# Altium schematic symbol library 686 1xx 148 922.SchLib: 15 symbols
Pins are listed as number, name and electrical type; pins without a type are passive.

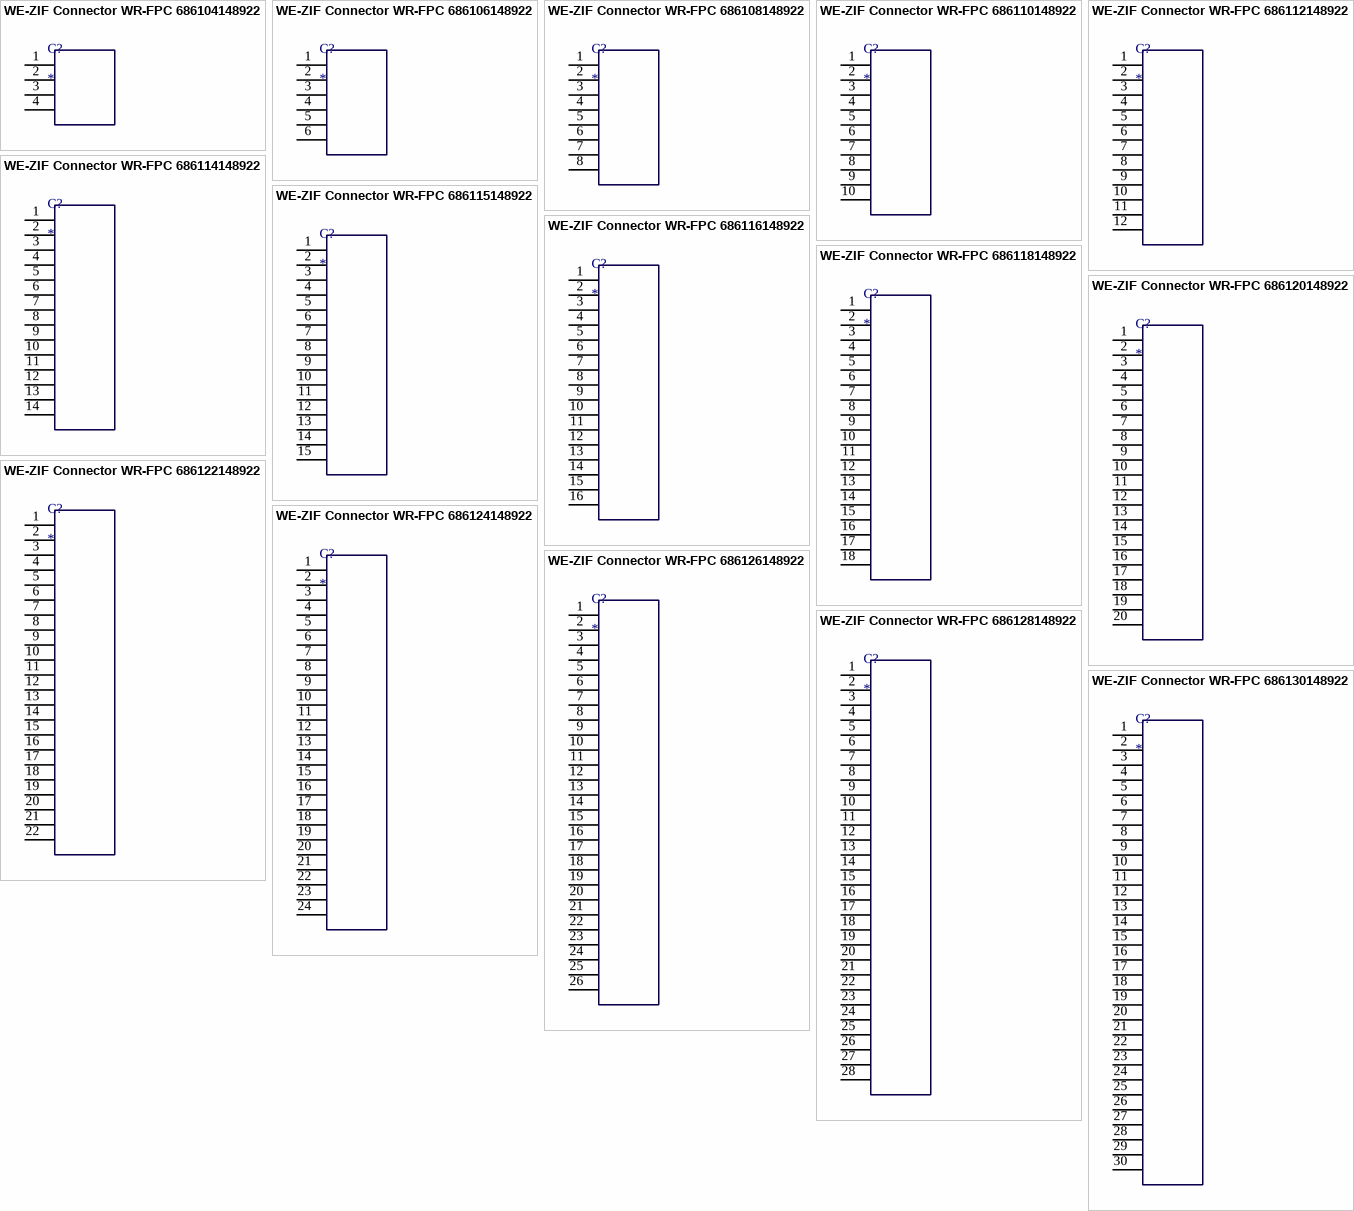
[diagram p0: symbols WE-ZIF Connector WR-FPC 686104148922 to WE-ZIF Connector WR-FPC 686130148922]

## WE-ZIF Connector WR-FPC 686104148922
designator C?
WR-FPC 1mm SMT Horiz. Bot. Contact Hinge type; Manufacturer: Würth Elektronik eiSos GmbH; partNo: 686104148922; ComponentLink1 Description: Manufacturer; ComponentLink2 Description: Datasheet; ComponentLink1URL: http://www.we-online.de; ComponentLink2URL: http://katalog.we-online.de/em/datasheet/6861xx148922.pdf; Created by: Karrer Zheng; Created Date: 10/9/2014
footprint 686104148922
pins: 1  , 2  , 3  , 4  

## WE-ZIF Connector WR-FPC 686106148922
designator C?
WR-FPC 1mm SMT Horiz. Bot. Contact Hinge type; Manufacturer: Würth Elektronik eiSos GmbH; partNo: 686106148922; ComponentLink1 Description: Manufacturer; ComponentLink2 Description: Datasheet; ComponentLink1URL: http://www.we-online.de; ComponentLink2URL: http://katalog.we-online.de/em/datasheet/6861xx148922.pdf; Created by: Karrer Zheng; Created Date: 10/9/2014
footprint 686106148922
pins: 1  , 2  , 3  , 4  , 5  , 6  

## WE-ZIF Connector WR-FPC 686108148922
designator C?
WR-FPC 1mm SMT Horiz. Bot. Contact Hinge type; Manufacturer: Würth Elektronik eiSos GmbH; partNo: 686108148922; ComponentLink1 Description: Manufacturer; ComponentLink2 Description: Datasheet; ComponentLink1URL: http://www.we-online.de; ComponentLink2URL: http://katalog.we-online.de/em/datasheet/6861xx148922.pdf; Created by: Karrer Zheng; Created Date: 10/9/2014
footprint 686108148922
pins: 1  , 2  , 3  , 4  , 5  , 6  , 7  , 8  

## WE-ZIF Connector WR-FPC 686110148922
designator C?
WR-FPC 1mm SMT Horiz. Bot. Contact Hinge type; Manufacturer: Würth Elektronik eiSos GmbH; partNo: 686110148922; ComponentLink1 Description: Manufacturer; ComponentLink2 Description: Datasheet; ComponentLink1URL: http://www.we-online.de; ComponentLink2URL: http://katalog.we-online.de/em/datasheet/6861xx148922.pdf; Created by: Karrer Zheng; Created Date: 10/9/2014
footprint 686110148922
pins: 1  , 2  , 3  , 4  , 5  , 6  , 7  , 8  , 9  , 10  

## WE-ZIF Connector WR-FPC 686112148922
designator C?
WR-FPC 1mm SMT Horiz. Bot. Contact Hinge type; Manufacturer: Würth Elektronik eiSos GmbH; partNo: 686112148922; ComponentLink1 Description: Manufacturer; ComponentLink2 Description: Datasheet; ComponentLink1URL: http://www.we-online.de; ComponentLink2URL: http://katalog.we-online.de/em/datasheet/6861xx148922.pdf; Created by: Karrer Zheng; Created Date: 10/9/2014
footprint 686112148922
pins: 1  , 2  , 3  , 4  , 5  , 6  , 7  , 8  , 9  , 10  , 11  , 12  

## WE-ZIF Connector WR-FPC 686114148922
designator C?
WR-FPC 1mm SMT Horiz. Bot. Contact Hinge type; Manufacturer: Würth Elektronik eiSos GmbH; partNo: 686114148922; ComponentLink1 Description: Manufacturer; ComponentLink2 Description: Datasheet; ComponentLink1URL: http://www.we-online.de; ComponentLink2URL: http://katalog.we-online.de/em/datasheet/6861xx148922.pdf; Created by: Karrer Zheng; Created Date: 10/9/2014
footprint 686114148922
pins: 1  , 2  , 3  , 4  , 5  , 6  , 7  , 8  , 9  , 10  , 11  , 12  , 13  , 14  

## WE-ZIF Connector WR-FPC 686115148922
designator C?
WR-FPC 1mm SMT Horiz. Bot. Contact Hinge type; Manufacturer: Würth Elektronik eiSos GmbH; partNo: 686115148922; ComponentLink1 Description: Manufacturer; ComponentLink2 Description: Datasheet; ComponentLink1URL: http://www.we-online.de; ComponentLink2URL: http://katalog.we-online.de/em/datasheet/6861xx148922.pdf; Created by: Karrer Zheng; Created Date: 10/9/2014
footprint 686115148922
pins: 1  , 2  , 3  , 4  , 5  , 6  , 7  , 8  , 9  , 10  , 11  , 12  , 13  , 14  , 15  

## WE-ZIF Connector WR-FPC 686116148922
designator C?
WR-FPC 1mm SMT Horiz. Bot. Contact Hinge type; Manufacturer: Würth Elektronik eiSos GmbH; partNo: 686116148922; ComponentLink1 Description: Manufacturer; ComponentLink2 Description: Datasheet; ComponentLink1URL: http://www.we-online.de; ComponentLink2URL: http://katalog.we-online.de/em/datasheet/6861xx148922.pdf; Created by: Karrer Zheng; Created Date: 10/9/2014
footprint 686116148922
pins: 1  , 2  , 3  , 4  , 5  , 6  , 7  , 8  , 9  , 10  , 11  , 12  , 13  , 14  , 15  , 16  

## WE-ZIF Connector WR-FPC 686118148922
designator C?
WR-FPC 1mm SMT Horiz. Bot. Contact Hinge type; Manufacturer: Würth Elektronik eiSos GmbH; partNo: 686118148922; ComponentLink1 Description: Manufacturer; ComponentLink2 Description: Datasheet; ComponentLink1URL: http://www.we-online.de; ComponentLink2URL: http://katalog.we-online.de/em/datasheet/6861xx148922.pdf; Created by: Karrer Zheng; Created Date: 10/9/2014
footprint 686118148922
pins: 1  , 2  , 3  , 4  , 5  , 6  , 7  , 8  , 9  , 10  , 11  , 12  , 13  , 14  , 15  , 16  , 17  , 18  

## WE-ZIF Connector WR-FPC 686120148922
designator C?
WR-FPC 1mm SMT Horiz. Bot. Contact Hinge type; Manufacturer: Würth Elektronik eiSos GmbH; partNo: 686120148922; ComponentLink1 Description: Manufacturer; ComponentLink2 Description: Datasheet; ComponentLink1URL: http://www.we-online.de; ComponentLink2URL: http://katalog.we-online.de/em/datasheet/6861xx148922.pdf; Created by: Karrer Zheng; Created Date: 10/9/2014
footprint 686120148922
pins: 1  , 2  , 3  , 4  , 5  , 6  , 7  , 8  , 9  , 10  , 11  , 12  , 13  , 14  , 15  , 16  , 17  , 18  , 19  , 20  

## WE-ZIF Connector WR-FPC 686122148922
designator C?
WR-FPC 1mm SMT Horiz. Bot. Contact Hinge type; Manufacturer: Würth Elektronik eiSos GmbH; partNo: 686122148922; ComponentLink1 Description: Manufacturer; ComponentLink2 Description: Datasheet; ComponentLink1URL: http://www.we-online.de; ComponentLink2URL: http://katalog.we-online.de/em/datasheet/6861xx148922.pdf; Created by: Karrer Zheng; Created Date: 10/9/2014
footprint 686122148922
pins: 1  , 2  , 3  , 4  , 5  , 6  , 7  , 8  , 9  , 10  , 11  , 12  , 13  , 14  , 15  , 16  , 17  , 18  , 19  , 20  , 21  , 22  

## WE-ZIF Connector WR-FPC 686124148922
designator C?
WR-FPC 1mm SMT Horiz. Bot. Contact Hinge type; Manufacturer: Würth Elektronik eiSos GmbH; partNo: 686124148922; ComponentLink1 Description: Manufacturer; ComponentLink2 Description: Datasheet; ComponentLink1URL: http://www.we-online.de; ComponentLink2URL: http://katalog.we-online.de/em/datasheet/6861xx148922.pdf; Created by: Karrer Zheng; Created Date: 10/9/2014
footprint 686124148922
pins: 1  , 2  , 3  , 4  , 5  , 6  , 7  , 8  , 9  , 10  , 11  , 12  , 13  , 14  , 15  , 16  , 17  , 18  , 19  , 20  , 21  , 22  , 23  , 24  

## WE-ZIF Connector WR-FPC 686126148922
designator C?
WR-FPC 1mm SMT Horiz. Bot. Contact Hinge type; Manufacturer: Würth Elektronik eiSos GmbH; partNo: 686126148922; ComponentLink1 Description: Manufacturer; ComponentLink2 Description: Datasheet; ComponentLink1URL: http://www.we-online.de; ComponentLink2URL: http://katalog.we-online.de/em/datasheet/6861xx148922.pdf; Created by: Karrer Zheng; Created Date: 10/9/2014
footprint 686126148922
pins: 1  , 2  , 3  , 4  , 5  , 6  , 7  , 8  , 9  , 10  , 11  , 12  , 13  , 14  , 15  , 16  , 17  , 18  , 19  , 20  , 21  , 22  , 23  , 24  , 25  , 26  

## WE-ZIF Connector WR-FPC 686128148922
designator C?
WR-FPC 1mm SMT Horiz. Bot. Contact Hinge type; Manufacturer: Würth Elektronik eiSos GmbH; partNo: 686128148922; ComponentLink1 Description: Manufacturer; ComponentLink2 Description: Datasheet; ComponentLink1URL: http://www.we-online.de; ComponentLink2URL: http://katalog.we-online.de/em/datasheet/6861xx148922.pdf; Created by: Karrer Zheng; Created Date: 10/9/2014
footprint 686128148922
pins: 1  , 2  , 3  , 4  , 5  , 6  , 7  , 8  , 9  , 10  , 11  , 12  , 13  , 14  , 15  , 16  , 17  , 18  , 19  , 20  , 21  , 22  , 23  , 24  , 25  , 26  , 27  , 28  

## WE-ZIF Connector WR-FPC 686130148922
designator C?
WR-FPC 1mm SMT Horiz. Bot. Contact Hinge type; Manufacturer: Würth Elektronik eiSos GmbH; partNo: 686130148922; ComponentLink1 Description: Manufacturer; ComponentLink2 Description: Datasheet; ComponentLink1URL: http://www.we-online.de; ComponentLink2URL: http://katalog.we-online.de/em/datasheet/6861xx148922.pdf; Created by: Karrer Zheng; Created Date: 10/9/2014
footprint 686130148922
pins: 1  , 2  , 3  , 4  , 5  , 6  , 7  , 8  , 9  , 10  , 11  , 12  , 13  , 14  , 15  , 16  , 17  , 18  , 19  , 20  , 21  , 22  , 23  , 24  , 25  , 26  , 27  , 28  , 29  , 30  